# Altium footprint library MCU_Footprint.PcbLib: 2 footprints
Each footprint in its own frame and in the unit in brackets; x right, y up, seen from the top. Pads: shape width x height; smd on the part's side, far side on the other; paste and mask are expansions set on the pad; w line width, h text height; cw(c..) or ccw(c..) is an arc to the next point about the centre after c.
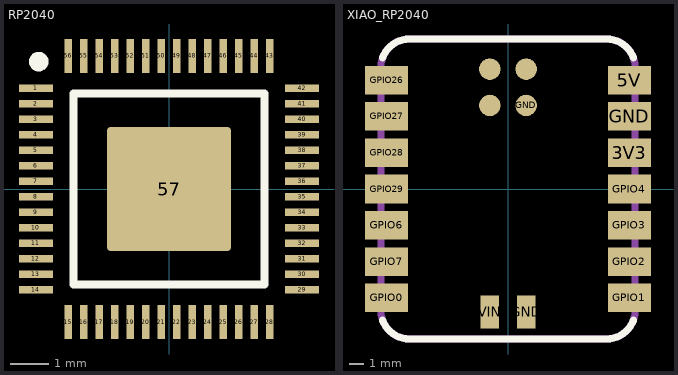
[diagram p0: the footprints below, top view; thin cyan lines are the x and y axes]

## RP2040 [mm] "Raspberry Pi RP2040"
pads (57):
  rect 0.875x0.2 smd mask+0.05: 1(-3.437,2.6) 2(-3.437,2.2) 3(-3.437,1.8) 4(-3.437,1.4) 5(-3.437,1) 6(-3.437,0.6) 7(-3.437,0.2) 8(-3.437,-0.2) 9(-3.437,-0.6) 10(-3.437,-1) 11(-3.437,-1.4) 12(-3.437,-1.8) 13(-3.437,-2.2) 14(-3.437,-2.6) 29(3.437,-2.6) 30(3.437,-2.2) 31(3.437,-1.8) 32(3.437,-1.4) 33(3.437,-1) 34(3.437,-0.6) 35(3.437,-0.2) 36(3.437,0.2) 37(3.437,0.6) 38(3.437,1) 39(3.437,1.4) 40(3.437,1.8) 41(3.437,2.2) 42(3.437,2.6)
  rect 0.2x0.875 smd mask+0.05: 15(-2.6,-3.437) 16(-2.2,-3.437) 17(-1.8,-3.437) 18(-1.4,-3.437) 19(-1,-3.437) 20(-0.6,-3.437) 21(-0.2,-3.437) 22(0.2,-3.437) 23(0.6,-3.437) 24(1,-3.437) 25(1.4,-3.437) 26(1.8,-3.437) 27(2.2,-3.437) 28(2.6,-3.437) 43(2.6,3.437) 44(2.2,3.437) 45(1.8,3.437) 46(1.4,3.437) 47(1,3.437) 48(0.6,3.437) 49(0.2,3.437) 50(-0.2,3.437) 51(-0.6,3.437) 52(-1,3.437) 53(-1.4,3.437) 54(-1.8,3.437) 55(-2.2,3.437) 56(-2.6,3.437)
  rrect5% 3.2x3.2 smd mask+0.1: 57(0,0)
Top Overlay:
  circle w0.254: c-3.365,3.291 r0.127
  lines w0.2: -2.465,-2.465 2.465,-2.465 2.465,2.465 -2.465,2.465 -2.465,1.736 -2.465,-2.465
3D body "User Library-RP2040_QFN56_04.step": height 0.86, standoff -0.04, extent -3.52,-3.52 3.52,3.52

## XIAO_RP2040 [mm] "Seed Studio Microcontroller, Mini and compact using the RP2040 Chip"
pads (20):
  rect 3x2 smd mask-2539.97: 3V3(8.5,2.54) 5V(8.5,7.62) GND(8.5,5.08) GPIO0(-8.5,-7.62) GPIO1(8.5,-7.62) GPIO2(8.5,-5.08) GPIO3(8.5,-2.54) GPIO4(8.5,0) GPIO6(-8.5,-2.54) GPIO7(-8.5,-5.08) GPIO26(-8.5,7.62) GPIO27(-8.5,5.08) GPIO28(-8.5,2.54) GPIO29(-8.5,0)
  rect 1.3x2.3 smd mask-2539.97: GND(1.27,-8.6) VIN(-1.27,-8.6)
  round 1.5 smd mask-2539.97: GND(1.27,5.85) RESET(-1.27,5.85) SWDCLK(1.27,8.39) SWDIO(-1.27,8.39)
Top Overlay:
  lines w0.5: -8.784,-9.17 ccw(c-6.9,-8.5) -6.9,-10.5 6.9,-10.5 ccw(c6.9,-8.5) 8.784,-9.17 ; -8.784,9.17 cw(c-6.9,8.5) -6.9,10.5 6.9,10.5 cw(c6.9,8.5) 8.784,9.17
Top Solder:
  circle w0.9: c-1.27,8.39 r0.45
  circle w0.9: c1.27,8.39 r0.45
  circle w0.9: c-1.27,5.85 r0.45
  circle w0.9: c1.27,5.85 r0.45
  region: 6.85,-1.15 6.85,1.15 10.15,1.15 10.15,-1.15
  region: -10.15,-1.15 -10.15,1.15 -6.85,1.15 -6.85,-1.15
  region: 0.47,-9.9 0.47,-7.3 2.07,-7.3 2.07,-9.9
  region: -2.07,-9.9 -2.07,-7.3 -0.47,-7.3 -0.47,-9.9
  region: 6.85,1.39 6.85,3.69 10.15,3.69 10.15,1.39
  region: -10.15,1.39 -10.15,3.69 -6.85,3.69 -6.85,1.39
  region: 6.85,3.93 6.85,6.23 10.15,6.23 10.15,3.93
  region: -10.15,3.93 -10.15,6.23 -6.85,6.23 -6.85,3.93
  region: 6.85,6.47 6.85,8.77 10.15,8.77 10.15,6.47
  region: -10.15,6.47 -10.15,8.77 -6.85,8.77 -6.85,6.47
  region: 6.85,-8.77 6.85,-6.47 10.15,-6.47 10.15,-8.77
  region: -10.15,-8.77 -10.15,-6.47 -6.85,-6.47 -6.85,-8.77
  region: 6.85,-6.23 6.85,-3.93 10.15,-3.93 10.15,-6.23
  region: -10.15,-6.23 -10.15,-3.93 -6.85,-3.93 -6.85,-6.23
  region: 6.85,-3.69 6.85,-1.39 10.15,-1.39 10.15,-3.69
  region: -10.15,-3.69 -10.15,-1.39 -6.85,-1.39 -6.85,-3.69
Mechanical 29:
  lines w0.5: -8.9,-8.5 ccw(c-6.9,-8.5) -6.9,-10.5 ; -8.9,-8.5 ccw(c-6.9,-8.5) -6.9,-10.5 ; -8.9,-8.5 -8.9,8.5 ; -8.9,-8.5 -8.9,8.5 ; -8.9,8.5 cw(c-6.9,8.5) -6.9,10.5 ; -8.9,8.5 cw(c-6.9,8.5) -6.9,10.5 ; -6.9,-10.5 6.9,-10.5 ; -6.9,-10.5 6.9,-10.5 ; -6.9,10.5 6.9,10.5 ; -6.9,10.5 6.9,10.5 ; 6.9,-10.5 ccw(c6.9,-8.5) 8.9,-8.5 ; 6.9,-10.5 ccw(c6.9,-8.5) 8.9,-8.5 ; 6.9,10.5 cw(c6.9,8.5) 8.9,8.5 ; 6.9,10.5 cw(c6.9,8.5) 8.9,8.5 ; 8.9,-8.5 8.9,8.5 ; 8.9,-8.5 8.9,8.5
  text ".Designator" at 0.15,0.483 h1
3D body "Seeed Studio XIAO RP2040 v26.step": height 4.41, standoff 0, extent -8.75,-10.5 8.75,11.5